# EAGLE library part EC11EBB24C03 (library alps)
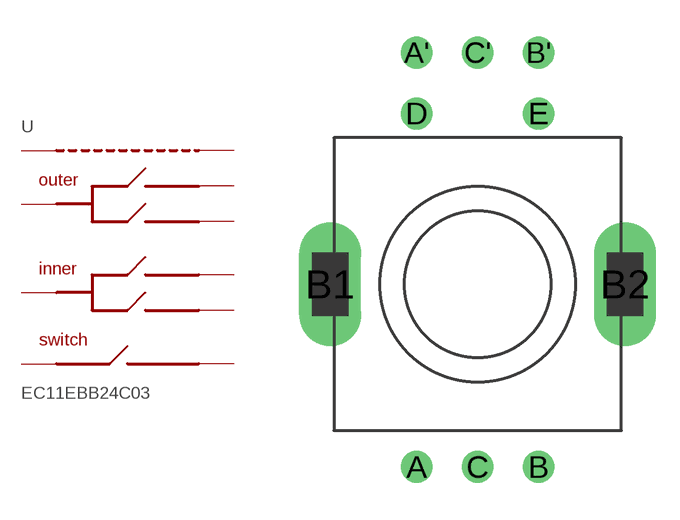
[diagram p0: symbol with the pads of EC11EBB24C03; footprint EC11EBB24C03]

Designator prefix -

## EC11EBB24C03  [EC11EBB24C03]
A  A  pas
A'  A'  pas
B  B  pas
B1  B1  pas
B2  B2  pas
B'  B'  pas
C  C  pas
C'  C'  pas
D  D  pas
E  E  pas

## Footprint EC11EBB24C03 (pad centres in mm)
drill 0.8 round: A -2.5,-7.5; A' -2.5,9.5; B 2.5,-7.5; B' 2.5,9.5; C 0,-7.5; C' 0,9.5; D -2.5,7; E 2.5,7
drill 0.8 pad 2.54 long: B1 -6.048,0; B2 6.048,0